# Altium footprint library SOP-20.PcbLib: 1 footprints
Each footprint in its own frame and in the unit in brackets; x right, y up, seen from the top. Pads: shape width x height; smd on the part's side, far side on the other; paste and mask are expansions set on the pad; w line width, h text height; cw(c..) or ccw(c..) is an arc to the next point about the centre after c.
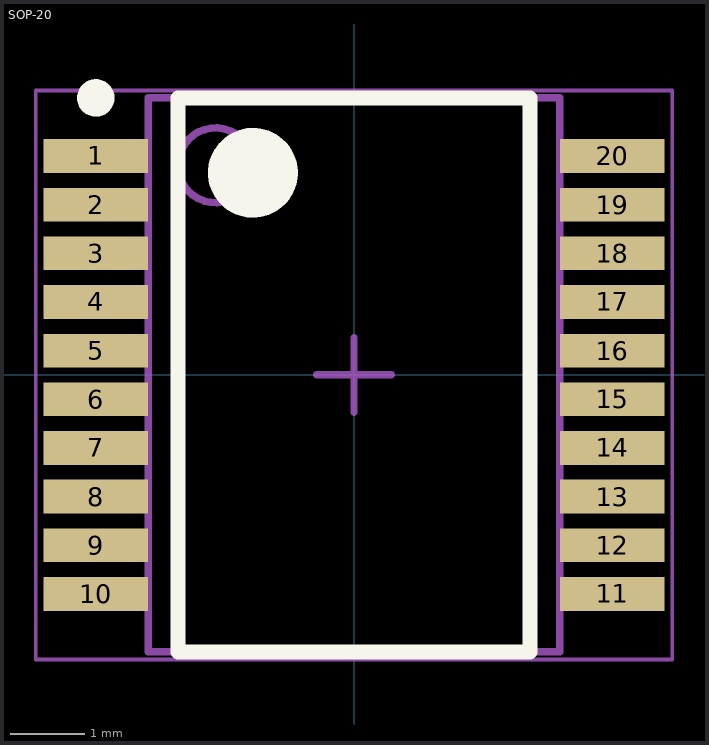
[diagram p0: the footprint, top view; thin cyan lines are the x and y axes]

## SOP-20 [mm]
height 1.85
pads (20):
  rect 1.4x0.45 smd: 1(-3.45,2.925) 2(-3.45,2.275) 3(-3.45,1.625) 4(-3.45,0.975) 5(-3.45,0.325) 6(-3.45,-0.325) 7(-3.45,-0.975) 8(-3.45,-1.625) 9(-3.45,-2.275) 10(-3.45,-2.925) 11(3.45,-2.925) 12(3.45,-2.275) 13(3.45,-1.625) 14(3.45,-0.975) 15(3.45,-0.325) 16(3.45,0.325) 17(3.45,0.975) 18(3.45,1.625) 19(3.45,2.275) 20(3.45,2.925)
Top Overlay:
  circle w0.6: c-1.35,2.7 r0.3
  circle w0.25: c-3.45,3.7 r0.125
  lines w0.2: -2.35,-3.7 2.35,-3.7 2.35,3.7 -2.35,3.7 -2.35,-3.7
Mechanical 13:
  circle w0.1: c-1.85,2.8 r0.5
  lines w0.1: -2.75,-3.7 2.75,-3.7 2.75,3.7 -2.75,3.7 -2.75,-3.7
Mechanical 15:
  lines w0.05: -4.25,-3.8 4.25,-3.8 4.25,3.8 -4.25,3.8 -4.25,-3.8
  lines w0.1: -0.5,0 0.5,0 ; 0,-0.5 0,0.5
3D body: height 1.85, standoff 0.05, extent -2.75,-3.7 2.75,3.7